# EAGLE library part GB-CART-SLOT(?) (library Gekkio-gameboy)
Game Boy cartridge slot
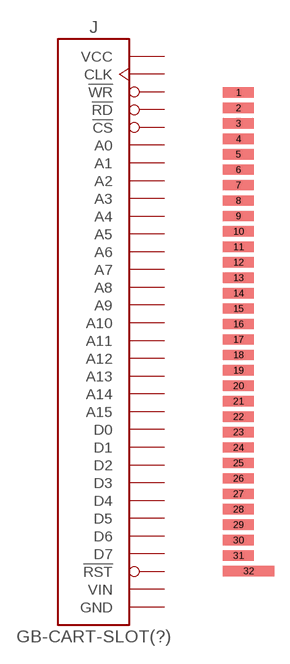
[diagram p1: symbol with the pads of DX-37787; footprint DX-37787]

Designator prefix J

## GB-CART-SLOT(DX-37787)  [DX-37787]
1  VCC  pwr
2  CLK
3  !WR
4  !RD
5  !CS
6  A0
7  A1
8  A2
9  A3
10  A4
11  A5
12  A6
13  A7
14  A8
15  A9
16  A10
17  A11
18  A12
19  A13
20  A14
21  A15
22  D0  hiz
23  D1  hiz
24  D2  hiz
25  D3  hiz
26  D4  hiz
27  D5  hiz
28  D6  hiz
29  D7  hiz
30  !RST
31  VIN  pas
32  GND  pwr

## Footprint DX-37787 (pad centres in mm)
DealeXtreme 37787 (Replacement GBA Game Cart Slot for NDS Lite) Replacement part for NDS Lite slot 2, but works with GB cartridges if some extra plastic is cut off. Tested Source: Manual measurements, trial and error
smd 3 x 1: 1 0,22.5; 2 0,21; 3 0,19.5; 4 0,18; 5 0,16.5; 6 0,15; 7 0,13.5; 8 0,12; 9 0,10.5; 10 0,9; 11 0,7.5; 12 0,6; 13 0,4.5; 14 0,3; 15 0,1.5; 16 0,0; 17 0,-1.5; 18 0,-3; 19 0,-4.5; 20 0,-6; 21 0,-7.5; 22 0,-9; 23 0,-10.5; 24 0,-12; 25 0,-13.5; 26 0,-15; 27 0,-16.5; 28 0,-18; 29 0,-19.5; 30 0,-21; 31 0,-22.5
smd 5 x 1: 32 1,-24